# EAGLE library part AD734* (library mita-akiba)
10MHz four-quadrant Multiplier/Divider 8244 yens at Akihabara
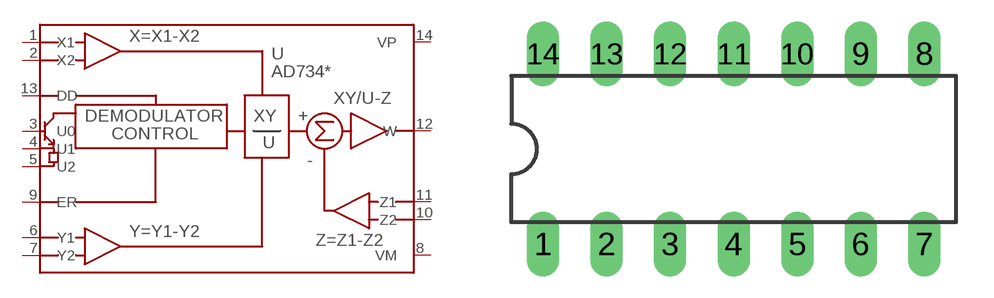
[diagram p55: symbol with the pads of DIL14; footprint DIL14]

Designator prefix -

## AD734Q  [DIL14]
1  X1
2  X2
3  U0
4  U1
5  U2
6  Y1
7  Y2
8  VM
9  ER
10  Z2
11  Z1
12  W
13  DD
14  VP

## Footprint DIL14 (pad centres in mm)
Dual In Line Package
drill 0.8 long: 1 -7.62,-3.81; 2 -5.08,-3.81; 3 -2.54,-3.81; 4 0,-3.81; 5 2.54,-3.81; 6 5.08,-3.81; 7 7.62,-3.81; 8 7.62,3.81; 9 5.08,3.81; 10 2.54,3.81; 11 0,3.81; 12 -2.54,3.81; 13 -5.08,3.81; 14 -7.62,3.81